# EAGLE library part 686115183422 (library Eagle_FPC_CONNECTOR_AND_FFC_CAB (rev18c))
686115183422 WR-FPC 1.00mm SMT Horizontal Top Contact - Low Profile <http://katalog.we-online.de/media/images/v2/Family_WR-FPC_6861xx183422.jpg> Details see: http://katalog.we-online.de/en/em/FPC_1_00_SMT_ZIF_HORIZONTAL_TOP_CONTACT_LOW_PROFILE_6861xx183422 Created by Yingchun,shan 2016 (C) Wurth Elektronik
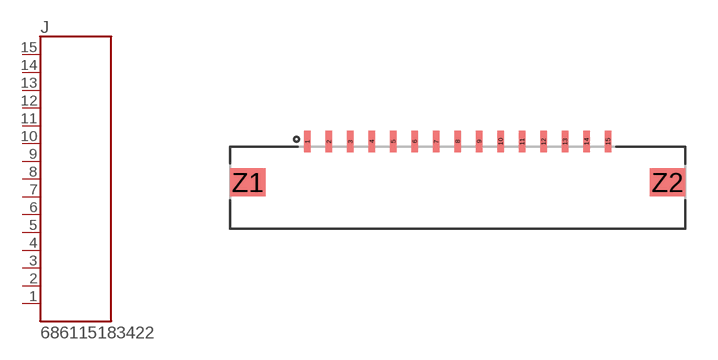
[diagram p152: symbol with the pads of 686115183422; footprint 686115183422]

Designator prefix J

## 686115183422  [686115183422]
1  15  pas
2  14  pas
3  13  pas
4  12  pas
5  11  pas
6  10  pas
7  9  pas
8  8  pas
9  7  pas
10  6  pas
11  5  pas
12  4  pas
13  3  pas
14  2  pas
15  1  pas

## Footprint 686115183422 (pad centres in mm)
smd 0.3 x 1: 1 -7,1.9; 2 -6,1.9; 3 -5,1.9; 4 -4,1.9; 5 -3,1.9; 6 -2,1.9; 7 -1,1.9; 8 0,1.9; 9 1,1.9; 10 2,1.9; 11 3,1.9; 12 4,1.9; 13 5,1.9; 14 6,1.9; 15 7,1.9
smd 1.65 x 1.3: Z1 -9.775,0; Z2 9.775,0